# Altium footprint library TSSOP56-SPE-DRV8301.PcbLib: 1 footprints
Each footprint in its own frame and in the unit in brackets; x right, y up, seen from the top. Pads: shape width x height; smd on the part's side, far side on the other; paste and mask are expansions set on the pad; w line width, h text height; cw(c..) or ccw(c..) is an arc to the next point about the centre after c.
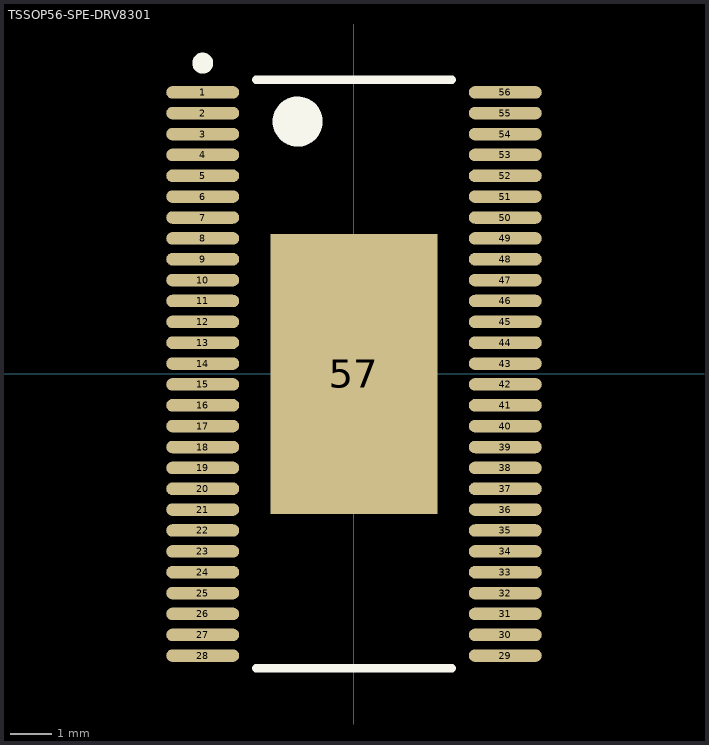
[diagram p0: the footprint, top view; thin cyan lines are the x and y axes]

## TSSOP56-SPE-DRV8301 [mm]
height 2
pads (57):
  oval 1.75x0.3 smd: 1(-3.625,6.75) 2(-3.625,6.25) 3(-3.625,5.75) 4(-3.625,5.25) 5(-3.625,4.75) 6(-3.625,4.25) 7(-3.625,3.75) 8(-3.625,3.25) 9(-3.625,2.75) 10(-3.625,2.25) 11(-3.625,1.75) 12(-3.625,1.25) 13(-3.625,0.75) 14(-3.625,0.25) 15(-3.625,-0.25) 16(-3.625,-0.75) 17(-3.625,-1.25) 18(-3.625,-1.75) 19(-3.625,-2.25) 20(-3.625,-2.75) 21(-3.625,-3.25) 22(-3.625,-3.75) 23(-3.625,-4.25) 24(-3.625,-4.75) 25(-3.625,-5.25) 26(-3.625,-5.75) 27(-3.625,-6.25) 28(-3.625,-6.75) 29(3.625,-6.75) 30(3.625,-6.25) 31(3.625,-5.75) 32(3.625,-5.25) 33(3.625,-4.75) 34(3.625,-4.25) 35(3.625,-3.75) 36(3.625,-3.25) 37(3.625,-2.75) 38(3.625,-2.25) 39(3.625,-1.75) 40(3.625,-1.25) 41(3.625,-0.75) 42(3.625,-0.25) 43(3.625,0.25) 44(3.625,0.75) 45(3.625,1.25) 46(3.625,1.75) 47(3.625,2.25) 48(3.625,2.75) 49(3.625,3.25) 50(3.625,3.75) 51(3.625,4.25) 52(3.625,4.75) 53(3.625,5.25) 54(3.625,5.75) 55(3.625,6.25) 56(3.625,6.75)
  rect 4x6.7 smd: 57(0,0)
Top Overlay:
  circle w0.25: c-3.625,7.45 r0.125
  circle w0.6: c-1.35,6.05 r0.3
  lines w0.2: -2.35,-7.05 2.35,-7.05 ; -2.35,7.05 2.35,7.05
3D body: height 1.09, standoff -0.45, extent -4.104,-7.034 4.041,7.046